# Altium integrated library TI Interface LVDS M-LVDS ECL CML.IntLib: 251 symbols (part 10 of 10)
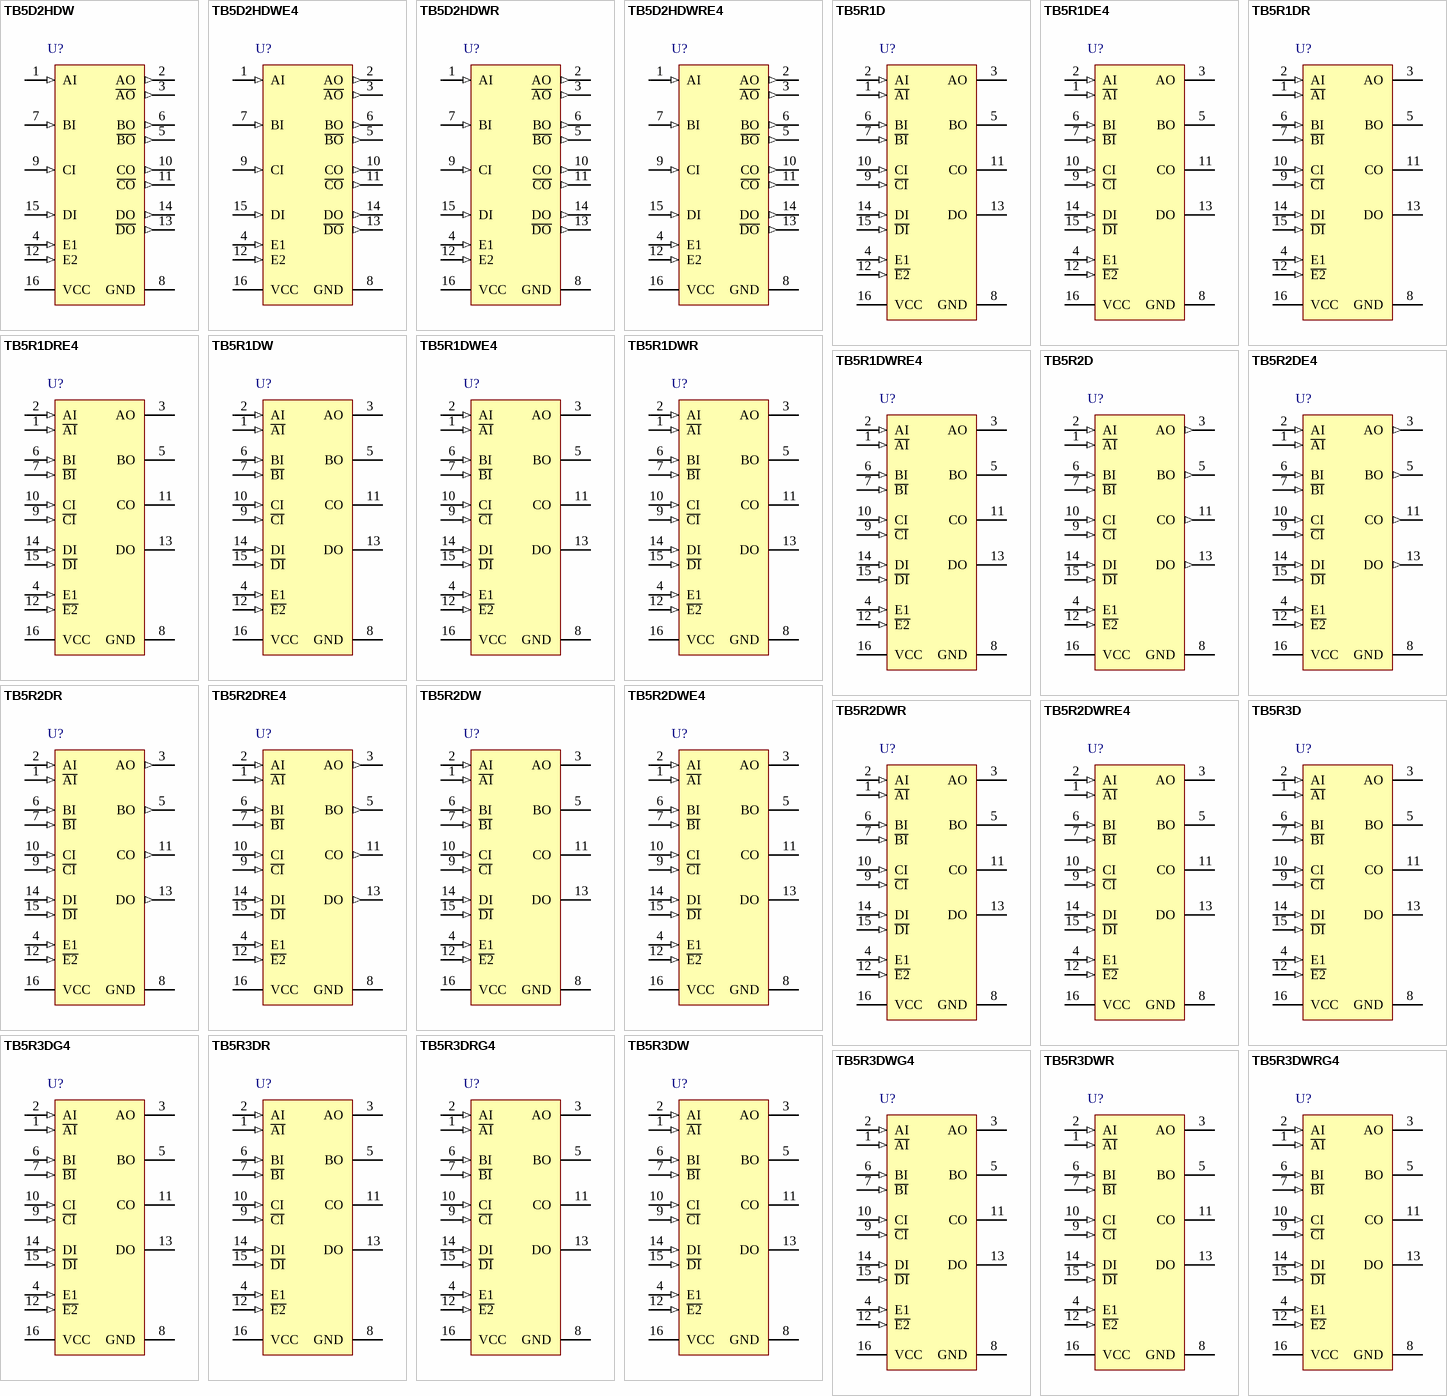
[diagram p18: symbols TB5D2HDW to TB5R3DWRG4]

## TB5R2DWE4
designator U?
Quad PECL Line Receiver with TTL Output, 4 Tx and 4 Rx, -40 to +85 degC, 16-pin SOIC (DW), Pb-Free (RoHS); Part-to-Part Skew(Max)(ps): 1500; Manufacturer: Texas Instruments; PartNumber: TB5R2DWE4; ICC(Max)(mA): 40; No. of Rx: 4; SubFamily: PECL PHY; xECL: TRUE; DatasheetVersion: SLLS588C; PackageVersion: revG, Jan-2011; PackageReference: DW16; PackageDescription: 16-Pin Small Outline Integrated Circuit, 10.3 x 7.5 mm, Pitch 1.27 mm Pitch; Eco-Plan: Pb-Free (RoHS); Input Signal: PECL; No. of Tx: 4; Output Signal: TTL; Mounting Technology: Surface Mount; Code_JEDEC: MS-013-AA; ComponentLink1Description: Datasheet; ComponentLink1URL: http://www.ti.com/general/docs/lit/getliterature.tsp?genericPartNumber=TB5R2&fileType=pdf; ComponentLink2Description: URL Link1; ComponentLink2URL: SamplesURL:http://www.ti.com/product/tb5r2#samples
footprint DW16_N (SOIC, 16-Leads, Body 10.3x7.5mm, Pitch 1.27mm, IPC Medium Density)
footprint DW16_L (SOIC, 16-Leads, Body 10.3x7.5mm, Pitch 1.27mm, IPC High Density)
footprint DW16_M (SOIC, 16-Leads, Body 10.3x7.5mm, Pitch 1.27mm, IPC Low Density)
pins: 1 ~{AI} (in), 2 AI (in), 3 AO (hiz), 4 E1 (in), 5 BO (hiz), 6 BI (in), 7 ~{BI} (in), 8 GND (power), 9 ~{CI} (in), 10 CI (in), 11 CO (hiz), 12 ~{E2} (in), 13 DO (hiz), 14 DI (in), 15 ~{DI} (in), 16 VCC (power)

## TB5R2DWR
designator U?
Quad PECL Line Receiver with PECL Input and TTL Output, 4 Tx and 4 Rx, 5.0 V, -40 to +85 degC, 16-pib SOIC (DW), Pb-Free (RoHS); Part-to-Part Skew(Max)(ps): 1500; Manufacturer: Texas Instruments; PartNumber: TB5R2DWR; ICC(Max)(mA): 40; No. of Rx: 4; SubFamily: PECL PHY; xECL: TRUE; DatasheetVersion: SLLS588C; PackageVersion: revG, Jan-2011; PackageReference: DW16; PackageDescription: 16-Pin Small Outline Integrated Circuit, 10.3 x 7.5 mm, Pitch 1.27 mm Pitch; Eco-Plan: Pb-Free (RoHS); Input Signal: PECL; No. of Tx: 4; Output Signal: TTL; Mounting Technology: Surface Mount; Code_JEDEC: MS-013-AA; ComponentLink1Description: Datasheet; ComponentLink1URL: http://www.ti.com/general/docs/lit/getliterature.tsp?genericPartNumber=TB5R2&fileType=pdf; ComponentLink2Description: URL Link1; ComponentLink2URL: SamplesURL:http://www.ti.com/product/tb5r2#samples
footprint DW16_N (SOIC, 16-Leads, Body 10.3x7.5mm, Pitch 1.27mm, IPC Medium Density)
footprint DW16_L (SOIC, 16-Leads, Body 10.3x7.5mm, Pitch 1.27mm, IPC High Density)
footprint DW16_M (SOIC, 16-Leads, Body 10.3x7.5mm, Pitch 1.27mm, IPC Low Density)
pins: 1 ~{AI} (in), 2 AI (in), 3 AO (hiz), 4 E1 (in), 5 BO (hiz), 6 BI (in), 7 ~{BI} (in), 8 GND (power), 9 ~{CI} (in), 10 CI (in), 11 CO (hiz), 12 ~{E2} (in), 13 DO (hiz), 14 DI (in), 15 ~{DI} (in), 16 VCC (power)

## TB5R2DWRE4
designator U?
Quad PECL Line Receiver with TTL Output, 4 Tx and 4 Rx, -40 to +85 degC, 16-pin SOIC (DW), Pb-Free (RoHS); Part-to-Part Skew(Max)(ps): 1500; Manufacturer: Texas Instruments; PartNumber: TB5R2DWRE4; ICC(Max)(mA): 40; No. of Rx: 4; SubFamily: PECL PHY; xECL: TRUE; DatasheetVersion: SLLS588C; PackageVersion: revG, Jan-2011; PackageReference: DW16; PackageDescription: 16-Pin Small Outline Integrated Circuit, 10.3 x 7.5 mm, Pitch 1.27 mm Pitch; Eco-Plan: Pb-Free (RoHS); Input Signal: PECL; No. of Tx: 4; Output Signal: TTL; Mounting Technology: Surface Mount; Code_JEDEC: MS-013-AA; ComponentLink1Description: Datasheet; ComponentLink1URL: http://www.ti.com/general/docs/lit/getliterature.tsp?genericPartNumber=TB5R2&fileType=pdf; ComponentLink2Description: URL Link1; ComponentLink2URL: SamplesURL:http://www.ti.com/product/tb5r2#samples
footprint DW16_N (SOIC, 16-Leads, Body 10.3x7.5mm, Pitch 1.27mm, IPC Medium Density)
footprint DW16_L (SOIC, 16-Leads, Body 10.3x7.5mm, Pitch 1.27mm, IPC High Density)
footprint DW16_M (SOIC, 16-Leads, Body 10.3x7.5mm, Pitch 1.27mm, IPC Low Density)
pins: 1 ~{AI} (in), 2 AI (in), 3 AO (hiz), 4 E1 (in), 5 BO (hiz), 6 BI (in), 7 ~{BI} (in), 8 GND (power), 9 ~{CI} (in), 10 CI (in), 11 CO (hiz), 12 ~{E2} (in), 13 DO (hiz), 14 DI (in), 15 ~{DI} (in), 16 VCC (power)

## TB5R3D
designator U?
Quad PECL Receiver with PECL Input and TTL Output, 4 Rx, -40 to +85 degC, 16-pin SOIC (D), Green (RoHS & no Sb/Br); Part-to-Part Skew(Max)(ps): 1500; Manufacturer: Texas Instruments; PartNumber: TB5R3D; ICC(Max)(mA): 50; No. of Rx: 4; SubFamily: PECL PHY; xECL: TRUE; DatasheetVersion: SLLS643A; PackageVersion: revM, Jun-2011; PackageReference: D16; PackageDescription: 16-Pin Plastic Small Outline Integrated Circuit, 9.9 x 3.9 mm, Pitch 1.27 mm Pitch; Supplier 1: Digi-Key; Supplier Part Number 1: 296-19322-5-ND; Supplier 2: Newark; Supplier Part Number 2: 58K6676; Supplier 3: Mouser; Supplier Part Number 3: 595-TB5R3D; Eco-Plan: Green (RoHS & no Sb/Br); Input Signal: PECL; Output Signal: TTL; Mounting Technology: Surface Mount; Code_JEDEC: MS-012AC; ComponentLink1Description: Datasheet; ComponentLink1URL: http://www.ti.com/general/docs/lit/getliterature.tsp?genericPartNumber=TB5R3&fileType=pdf; ComponentLink2Description: URL Link1; ComponentLink2URL: SamplesURL:http://www.ti.com/product/tb5r3#samples
footprint D16_N (SOIC, 16-Leads, Body 9.9x3.9mm, Pitch 1.27mm, IPC Medium Density)
footprint D16_L (SOIC, 16-Leads, Body 9.9x3.9mm, Pitch 1.27mm, IPC High Density)
footprint D16_M (SOIC, 16-Leads, Body 9.9x3.9mm, Pitch 1.27mm, IPC Low Density)
pins: 1 ~{AI} (in), 2 AI (in), 3 AO (hiz), 4 E1 (in), 5 BO (hiz), 6 BI (in), 7 ~{BI} (in), 8 GND (power), 9 ~{CI} (in), 10 CI (in), 11 CO (hiz), 12 ~{E2} (in), 13 DO (hiz), 14 DI (in), 15 ~{DI} (in), 16 VCC (power)

## TB5R3DG4
designator U?
Quad PECL Receiver with PECL Input and TTL Output, 4 Rx, -40 to +85 degC, 16-pin SOIC (D), Green (RoHS & no Sb/Br); Part-to-Part Skew(Max)(ps): 1500; Manufacturer: Texas Instruments; PartNumber: TB5R3DG4; ICC(Max)(mA): 50; No. of Rx: 4; SubFamily: PECL PHY; xECL: TRUE; DatasheetVersion: SLLS643A; PackageVersion: revM, Jun-2011; PackageReference: D16; PackageDescription: 16-Pin Plastic Small Outline Integrated Circuit, 9.9 x 3.9 mm, Pitch 1.27 mm Pitch; Supplier 1: Digi-Key; Supplier Part Number 1: TB5R3DG4-ND; Supplier 2: Newark; Supplier Part Number 2: 65M5831; Supplier 3: Mouser; Supplier Part Number 3: 595-TB5R3DG4; Eco-Plan: Green (RoHS & no Sb/Br); Input Signal: PECL; Output Signal: TTL; Mounting Technology: Surface Mount; Code_JEDEC: MS-012AC; ComponentLink1Description: Datasheet; ComponentLink1URL: http://www.ti.com/general/docs/lit/getliterature.tsp?genericPartNumber=TB5R3&fileType=pdf; ComponentLink2Description: URL Link1; ComponentLink2URL: SamplesURL:http://www.ti.com/product/tb5r3#samples
footprint D16_N (SOIC, 16-Leads, Body 9.9x3.9mm, Pitch 1.27mm, IPC Medium Density)
footprint D16_L (SOIC, 16-Leads, Body 9.9x3.9mm, Pitch 1.27mm, IPC High Density)
footprint D16_M (SOIC, 16-Leads, Body 9.9x3.9mm, Pitch 1.27mm, IPC Low Density)
pins: 1 ~{AI} (in), 2 AI (in), 3 AO (hiz), 4 E1 (in), 5 BO (hiz), 6 BI (in), 7 ~{BI} (in), 8 GND (power), 9 ~{CI} (in), 10 CI (in), 11 CO (hiz), 12 ~{E2} (in), 13 DO (hiz), 14 DI (in), 15 ~{DI} (in), 16 VCC (power)

## TB5R3DR
designator U?
Quad PECL Receiver with PECL Input and TTL Output, 4 Rx, -40 to +85 degC, 16-pin SOIC (D), Green (RoHS & no Sb/Br); Part-to-Part Skew(Max)(ps): 1500; Manufacturer: Texas Instruments; PartNumber: TB5R3DR; ICC(Max)(mA): 50; No. of Rx: 4; SubFamily: PECL PHY; xECL: TRUE; DatasheetVersion: SLLS643A; PackageVersion: revM, Jun-2011; PackageReference: D16; PackageDescription: 16-Pin Plastic Small Outline Integrated Circuit, 9.9 x 3.9 mm, Pitch 1.27 mm Pitch; Supplier 1: Digi-Key; Supplier Part Number 1: TB5R3DR-ND; Supplier 2: Mouser; Supplier Part Number 2: 595-TB5R3DR; Eco-Plan: Green (RoHS & no Sb/Br); Input Signal: PECL; Output Signal: TTL; Mounting Technology: Surface Mount; Code_JEDEC: MS-012AC; ComponentLink1Description: Datasheet; ComponentLink1URL: http://www.ti.com/general/docs/lit/getliterature.tsp?genericPartNumber=TB5R3&fileType=pdf; ComponentLink2Description: URL Link1; ComponentLink2URL: SamplesURL:http://www.ti.com/product/tb5r3#samples
footprint D16_N (SOIC, 16-Leads, Body 9.9x3.9mm, Pitch 1.27mm, IPC Medium Density)
footprint D16_L (SOIC, 16-Leads, Body 9.9x3.9mm, Pitch 1.27mm, IPC High Density)
footprint D16_M (SOIC, 16-Leads, Body 9.9x3.9mm, Pitch 1.27mm, IPC Low Density)
pins: 1 ~{AI} (in), 2 AI (in), 3 AO (hiz), 4 E1 (in), 5 BO (hiz), 6 BI (in), 7 ~{BI} (in), 8 GND (power), 9 ~{CI} (in), 10 CI (in), 11 CO (hiz), 12 ~{E2} (in), 13 DO (hiz), 14 DI (in), 15 ~{DI} (in), 16 VCC (power)

## TB5R3DRG4
designator U?
Quad PECL Receiver with PECL Input and TTL Output, 4 Rx, -40 to +85 degC, 16-pin SOIC (D), Green (RoHS & no Sb/Br); Part-to-Part Skew(Max)(ps): 1500; Manufacturer: Texas Instruments; PartNumber: TB5R3DRG4; ICC(Max)(mA): 50; No. of Rx: 4; SubFamily: PECL PHY; xECL: TRUE; DatasheetVersion: SLLS643A; PackageVersion: revM, Jun-2011; PackageReference: D16; PackageDescription: 16-Pin Plastic Small Outline Integrated Circuit, 9.9 x 3.9 mm, Pitch 1.27 mm Pitch; Supplier 1: Digi-Key; Supplier Part Number 1: TB5R3DRG4-ND; Supplier 2: Mouser; Supplier Part Number 2: 595-TB5R3DRG4; Eco-Plan: Green (RoHS & no Sb/Br); Input Signal: PECL; Output Signal: TTL; Mounting Technology: Surface Mount; Code_JEDEC: MS-012AC; ComponentLink1Description: Datasheet; ComponentLink1URL: http://www.ti.com/general/docs/lit/getliterature.tsp?genericPartNumber=TB5R3&fileType=pdf; ComponentLink2Description: URL Link1; ComponentLink2URL: SamplesURL:http://www.ti.com/product/tb5r3#samples
footprint D16_N (SOIC, 16-Leads, Body 9.9x3.9mm, Pitch 1.27mm, IPC Medium Density)
footprint D16_L (SOIC, 16-Leads, Body 9.9x3.9mm, Pitch 1.27mm, IPC High Density)
footprint D16_M (SOIC, 16-Leads, Body 9.9x3.9mm, Pitch 1.27mm, IPC Low Density)
pins: 1 ~{AI} (in), 2 AI (in), 3 AO (hiz), 4 E1 (in), 5 BO (hiz), 6 BI (in), 7 ~{BI} (in), 8 GND (power), 9 ~{CI} (in), 10 CI (in), 11 CO (hiz), 12 ~{E2} (in), 13 DO (hiz), 14 DI (in), 15 ~{DI} (in), 16 VCC (power)

## TB5R3DW
designator U?
Quad PECL Receiver with PECL Input and TTL Output, 4 Rx, -40 to +85 degC, 16-pin SOIC (DW), Green (RoHS & no Sb/Br); Part-to-Part Skew(Max)(ps): 1500; Manufacturer: Texas Instruments; PartNumber: TB5R3DW; ICC(Max)(mA): 50; No. of Rx: 4; SubFamily: PECL PHY; xECL: TRUE; DatasheetVersion: SLLS643A; PackageVersion: revG, Jan-2011; PackageReference: DW16; PackageDescription: 16-Pin Small Outline Integrated Circuit, 10.3 x 7.5 mm, Pitch 1.27 mm Pitch; Supplier 1: Digi-Key; Supplier Part Number 1: 296-19323-5-ND; Supplier 2: Newark; Supplier Part Number 2: 58K6678; Supplier 3: Mouser; Supplier Part Number 3: 595-TB5R3DW; Eco-Plan: Green (RoHS & no Sb/Br); Input Signal: PECL; Output Signal: TTL; Mounting Technology: Surface Mount; Code_JEDEC: MS-013-AA; ComponentLink1Description: Datasheet; ComponentLink1URL: http://www.ti.com/general/docs/lit/getliterature.tsp?genericPartNumber=TB5R3&fileType=pdf; ComponentLink2Description: URL Link1; ComponentLink2URL: SamplesURL:http://www.ti.com/product/tb5r3#samples
footprint DW16_N (SOIC, 16-Leads, Body 10.3x7.5mm, Pitch 1.27mm, IPC Medium Density)
footprint DW16_L (SOIC, 16-Leads, Body 10.3x7.5mm, Pitch 1.27mm, IPC High Density)
footprint DW16_M (SOIC, 16-Leads, Body 10.3x7.5mm, Pitch 1.27mm, IPC Low Density)
pins: 1 ~{AI} (in), 2 AI (in), 3 AO (hiz), 4 E1 (in), 5 BO (hiz), 6 BI (in), 7 ~{BI} (in), 8 GND (power), 9 ~{CI} (in), 10 CI (in), 11 CO (hiz), 12 ~{E2} (in), 13 DO (hiz), 14 DI (in), 15 ~{DI} (in), 16 VCC (power)

## TB5R3DWG4
designator U?
Quad PECL Receiver with PECL Input and TTL Output, 4 Rx, -40 to +85 degC, 16-pin SOIC (DW), Green (RoHS & no Sb/Br); Part-to-Part Skew(Max)(ps): 1500; Manufacturer: Texas Instruments; PartNumber: TB5R3DWG4; ICC(Max)(mA): 50; No. of Rx: 4; SubFamily: PECL PHY; xECL: TRUE; DatasheetVersion: SLLS643A; PackageVersion: revG, Jan-2011; PackageReference: DW16; PackageDescription: 16-Pin Small Outline Integrated Circuit, 10.3 x 7.5 mm, Pitch 1.27 mm Pitch; Supplier 1: Digi-Key; Supplier Part Number 1: TB5R3DWG4-ND; Supplier 2: Mouser; Supplier Part Number 2: 595-TB5R3DWG4; Eco-Plan: Green (RoHS & no Sb/Br); Input Signal: PECL; Output Signal: TTL; Mounting Technology: Surface Mount; Code_JEDEC: MS-013-AA; ComponentLink1Description: Datasheet; ComponentLink1URL: http://www.ti.com/general/docs/lit/getliterature.tsp?genericPartNumber=TB5R3&fileType=pdf; ComponentLink2Description: URL Link1; ComponentLink2URL: SamplesURL:http://www.ti.com/product/tb5r3#samples
footprint DW16_N (SOIC, 16-Leads, Body 10.3x7.5mm, Pitch 1.27mm, IPC Medium Density)
footprint DW16_L (SOIC, 16-Leads, Body 10.3x7.5mm, Pitch 1.27mm, IPC High Density)
footprint DW16_M (SOIC, 16-Leads, Body 10.3x7.5mm, Pitch 1.27mm, IPC Low Density)
pins: 1 ~{AI} (in), 2 AI (in), 3 AO (hiz), 4 E1 (in), 5 BO (hiz), 6 BI (in), 7 ~{BI} (in), 8 GND (power), 9 ~{CI} (in), 10 CI (in), 11 CO (hiz), 12 ~{E2} (in), 13 DO (hiz), 14 DI (in), 15 ~{DI} (in), 16 VCC (power)

## TB5R3DWR
designator U?
Quad PECL Receiver with PECL Input and TTL Output, 4 Rx, -40 to +85 degC, 16-pin SOIC (DW), Green (RoHS & no Sb/Br); Part-to-Part Skew(Max)(ps): 1500; Manufacturer: Texas Instruments; PartNumber: TB5R3DWR; ICC(Max)(mA): 50; No. of Rx: 4; SubFamily: PECL PHY; xECL: TRUE; DatasheetVersion: SLLS643A; PackageVersion: revG, Jan-2011; PackageReference: DW16; PackageDescription: 16-Pin Small Outline Integrated Circuit, 10.3 x 7.5 mm, Pitch 1.27 mm Pitch; Supplier 1: Digi-Key; Supplier Part Number 1: TB5R3DWR-ND; Supplier 2: Newark; Supplier Part Number 2: 58K6679; Supplier 3: Mouser; Supplier Part Number 3: 595-TB5R3DWR; Eco-Plan: Green (RoHS & no Sb/Br); Input Signal: PECL; Output Signal: TTL; Mounting Technology: Surface Mount; Code_JEDEC: MS-013-AA; ComponentLink1Description: Datasheet; ComponentLink1URL: http://www.ti.com/general/docs/lit/getliterature.tsp?genericPartNumber=TB5R3&fileType=pdf; ComponentLink2Description: URL Link1; ComponentLink2URL: SamplesURL:http://www.ti.com/product/tb5r3#samples
footprint DW16_N (SOIC, 16-Leads, Body 10.3x7.5mm, Pitch 1.27mm, IPC Medium Density)
footprint DW16_L (SOIC, 16-Leads, Body 10.3x7.5mm, Pitch 1.27mm, IPC High Density)
footprint DW16_M (SOIC, 16-Leads, Body 10.3x7.5mm, Pitch 1.27mm, IPC Low Density)
pins: 1 ~{AI} (in), 2 AI (in), 3 AO (hiz), 4 E1 (in), 5 BO (hiz), 6 BI (in), 7 ~{BI} (in), 8 GND (power), 9 ~{CI} (in), 10 CI (in), 11 CO (hiz), 12 ~{E2} (in), 13 DO (hiz), 14 DI (in), 15 ~{DI} (in), 16 VCC (power)

## TB5R3DWRG4
designator U?
Quad PECL Receiver with PECL Input and TTL Output, 4 Rx, -40 to +85 degC, 16-pin SOIC (DW), Green (RoHS & no Sb/Br); Part-to-Part Skew(Max)(ps): 1500; Manufacturer: Texas Instruments; PartNumber: TB5R3DWRG4; ICC(Max)(mA): 50; No. of Rx: 4; SubFamily: PECL PHY; xECL: TRUE; DatasheetVersion: SLLS643A; PackageVersion: revG, Jan-2011; PackageReference: DW16; PackageDescription: 16-Pin Small Outline Integrated Circuit, 10.3 x 7.5 mm, Pitch 1.27 mm Pitch; Supplier 1: Digi-Key; Supplier Part Number 1: TB5R3DWRG4-ND; Supplier 2: Newark; Supplier Part Number 2: 67K8434; Supplier 3: Mouser; Supplier Part Number 3: 595-TB5R3DWRG4; Eco-Plan: Green (RoHS & no Sb/Br); Input Signal: PECL; Output Signal: TTL; Mounting Technology: Surface Mount; Code_JEDEC: MS-013-AA; ComponentLink1Description: Datasheet; ComponentLink1URL: http://www.ti.com/general/docs/lit/getliterature.tsp?genericPartNumber=TB5R3&fileType=pdf; ComponentLink2Description: URL Link1; ComponentLink2URL: SamplesURL:http://www.ti.com/product/tb5r3#samples
footprint DW16_N (SOIC, 16-Leads, Body 10.3x7.5mm, Pitch 1.27mm, IPC Medium Density)
footprint DW16_L (SOIC, 16-Leads, Body 10.3x7.5mm, Pitch 1.27mm, IPC High Density)
footprint DW16_M (SOIC, 16-Leads, Body 10.3x7.5mm, Pitch 1.27mm, IPC Low Density)
pins: 1 ~{AI} (in), 2 AI (in), 3 AO (hiz), 4 E1 (in), 5 BO (hiz), 6 BI (in), 7 ~{BI} (in), 8 GND (power), 9 ~{CI} (in), 10 CI (in), 11 CO (hiz), 12 ~{E2} (in), 13 DO (hiz), 14 DI (in), 15 ~{DI} (in), 16 VCC (power)

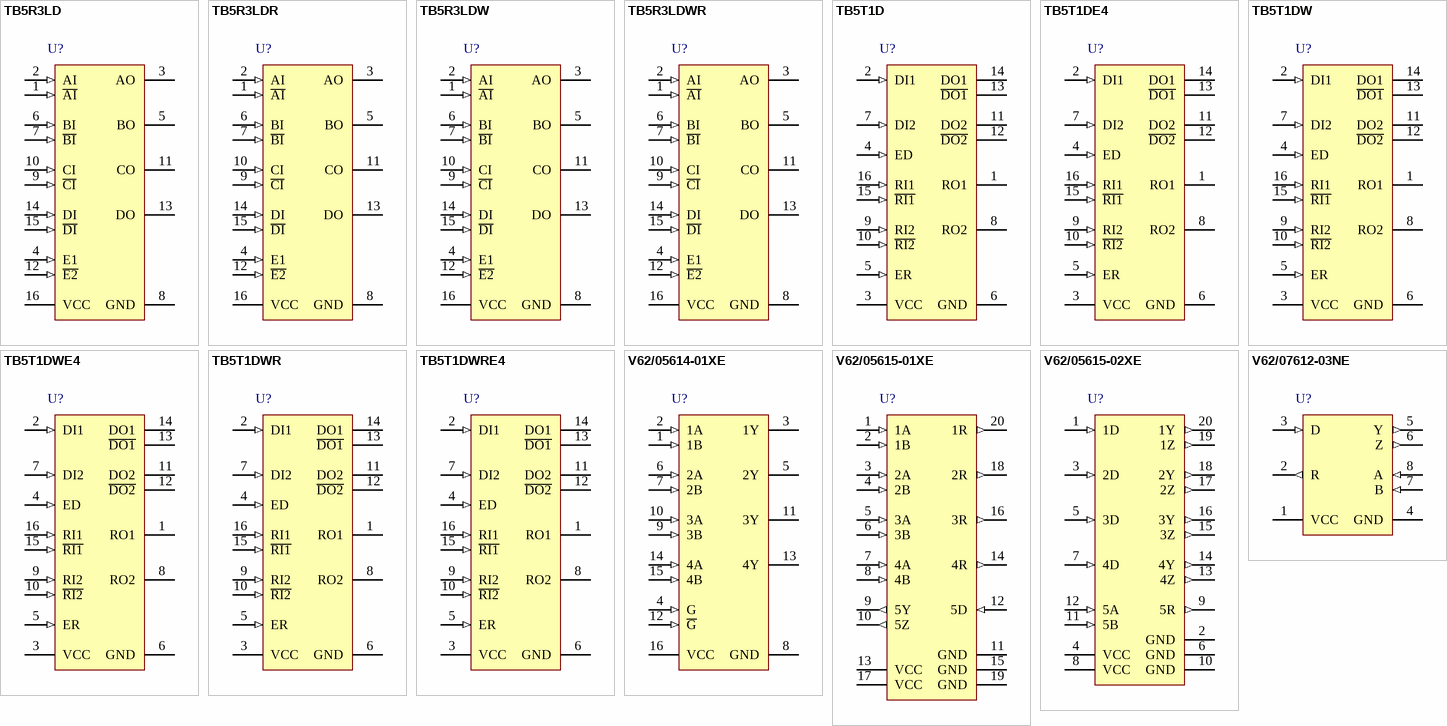
[diagram p9: symbols TB5R3LD to V62/07612-03NE]

## TB5R3LD
designator U?
Quad PECL Receiver with TTL Output, 4 Rx, -40 to +85 degC, 16-pin SOIC (D), Green (RoHS & no Sb/Br); Part-to-Part Skew(Max)(ps): 1500; Manufacturer: Texas Instruments; PartNumber: TB5R3LD; ICC(Max)(mA): 50; No. of Rx: 4; SubFamily: PECL PHY; xECL: TRUE; DatasheetVersion: SLLS643A; PackageVersion: revM, Jun-2011; PackageReference: D16; PackageDescription: 16-Pin Plastic Small Outline Integrated Circuit, 9.9 x 3.9 mm, Pitch 1.27 mm Pitch; Supplier 1: Digi-Key; Supplier Part Number 1: TB5R3LD-ND; Supplier 2: Farnell; Supplier Part Number 2: 1755440; Supplier 3: Newark; Supplier Part Number 3: 34R9078; Supplier 4: Newark; Supplier Part Number 4: 58K6680; Supplier 5: Mouser; Supplier Part Number 5: 595-TB5R3LD; Eco-Plan: Green (RoHS & no Sb/Br); Input Signal: PECL; Output Signal: TTL; Mounting Technology: Surface Mount; Code_JEDEC: MS-012AC; ComponentLink1Description: Datasheet; ComponentLink1URL: http://www.ti.com/general/docs/lit/getliterature.tsp?genericPartNumber=TB5R3&fileType=pdf; ComponentLink2Description: URL Link1; ComponentLink2URL: SamplesURL:http://www.ti.com/product/tb5r3#samples
footprint D16_N (SOIC, 16-Leads, Body 9.9x3.9mm, Pitch 1.27mm, IPC Medium Density)
footprint D16_L (SOIC, 16-Leads, Body 9.9x3.9mm, Pitch 1.27mm, IPC High Density)
footprint D16_M (SOIC, 16-Leads, Body 9.9x3.9mm, Pitch 1.27mm, IPC Low Density)
pins: 1 ~{AI} (in), 2 AI (in), 3 AO (hiz), 4 E1 (in), 5 BO (hiz), 6 BI (in), 7 ~{BI} (in), 8 GND (power), 9 ~{CI} (in), 10 CI (in), 11 CO (hiz), 12 ~{E2} (in), 13 DO (hiz), 14 DI (in), 15 ~{DI} (in), 16 VCC (power)

## TB5R3LDR
designator U?
Quad PECL Receiver with TTL Output, 4 Rx, -40 to +85 degC, 16-pin SOIC (D); Part-to-Part Skew(Max)(ps): 1500; Manufacturer: Texas Instruments; PartNumber: TB5R3LDR; Eco-Plan: Green (RoHS & no Sb/Br); ICC(Max)(mA): 50; No. of Rx: 4; SubFamily: PECL PHY; xECL: TRUE; DatasheetVersion: SLLS643A; PackageVersion: revM, Jun-2011; PackageReference: D16; PackageDescription: 16-Pin Plastic Small Outline Integrated Circuit, 9.9 x 3.9 mm, Pitch 1.27 mm Pitch; Supplier 1: Digi-Key; Supplier Part Number 1: TB5R3LDR-ND; Supplier 2: Mouser; Supplier Part Number 2: 595-TB5R3LDR; Input Signal: PECL; Output Signal: TTL; Mounting Technology: Surface Mount; Code_JEDEC: MS-012AC; ComponentLink1Description: Datasheet; ComponentLink1URL: http://www.ti.com/general/docs/lit/getliterature.tsp?genericPartNumber=TB5R3&fileType=pdf; ComponentLink2Description: URL Link1; ComponentLink2URL: SamplesURL:http://www.ti.com/product/tb5r3#samples
footprint D16_N (SOIC, 16-Leads, Body 9.9x3.9mm, Pitch 1.27mm, IPC Medium Density)
footprint D16_L (SOIC, 16-Leads, Body 9.9x3.9mm, Pitch 1.27mm, IPC High Density)
footprint D16_M (SOIC, 16-Leads, Body 9.9x3.9mm, Pitch 1.27mm, IPC Low Density)
pins: 1 ~{AI} (in), 2 AI (in), 3 AO (hiz), 4 E1 (in), 5 BO (hiz), 6 BI (in), 7 ~{BI} (in), 8 GND (power), 9 ~{CI} (in), 10 CI (in), 11 CO (hiz), 12 ~{E2} (in), 13 DO (hiz), 14 DI (in), 15 ~{DI} (in), 16 VCC (power)

## TB5R3LDW
designator U?
Quad PECL Receiver with TTL Output, 4 Rx, -40 to +85 degC, 16-pin SOIC (DW); Part-to-Part Skew(Max)(ps): 1500; Manufacturer: Texas Instruments; PartNumber: TB5R3LDW; Eco-Plan: Green (RoHS & no Sb/Br); ICC(Max)(mA): 50; No. of Rx: 4; SubFamily: PECL PHY; xECL: TRUE; DatasheetVersion: SLLS643A; PackageVersion: revG, Jan-2011; PackageReference: DW16; PackageDescription: 16-Pin Small Outline Integrated Circuit, 10.3 x 7.5 mm, Pitch 1.27 mm Pitch; Supplier 1: Digi-Key; Supplier Part Number 1: TB5R3LDW-ND; Supplier 2: Newark; Supplier Part Number 2: 58K6682; Supplier 3: Mouser; Supplier Part Number 3: 595-TB5R3LDW; Input Signal: PECL; Output Signal: TTL; Mounting Technology: Surface Mount; Code_JEDEC: MS-013-AA; ComponentLink1Description: Datasheet; ComponentLink1URL: http://www.ti.com/general/docs/lit/getliterature.tsp?genericPartNumber=TB5R3&fileType=pdf; ComponentLink2Description: URL Link1; ComponentLink2URL: SamplesURL:http://www.ti.com/product/tb5r3#samples
footprint DW16_N (SOIC, 16-Leads, Body 10.3x7.5mm, Pitch 1.27mm, IPC Medium Density)
footprint DW16_L (SOIC, 16-Leads, Body 10.3x7.5mm, Pitch 1.27mm, IPC High Density)
footprint DW16_M (SOIC, 16-Leads, Body 10.3x7.5mm, Pitch 1.27mm, IPC Low Density)
pins: 1 ~{AI} (in), 2 AI (in), 3 AO (hiz), 4 E1 (in), 5 BO (hiz), 6 BI (in), 7 ~{BI} (in), 8 GND (power), 9 ~{CI} (in), 10 CI (in), 11 CO (hiz), 12 ~{E2} (in), 13 DO (hiz), 14 DI (in), 15 ~{DI} (in), 16 VCC (power)

## TB5R3LDWR
designator U?
Quad PECL Receiver with TTL Output, 4 Rx, -40 to +85 degC, 16-pin SOIC (DW); Part-to-Part Skew(Max)(ps): 1500; Manufacturer: Texas Instruments; PartNumber: TB5R3LDWR; Eco-Plan: Green (RoHS & no Sb/Br); ICC(Max)(mA): 50; No. of Rx: 4; SubFamily: PECL PHY; xECL: TRUE; DatasheetVersion: SLLS643A; PackageVersion: revG, Jan-2011; PackageReference: DW16; PackageDescription: 16-Pin Small Outline Integrated Circuit, 10.3 x 7.5 mm, Pitch 1.27 mm Pitch; Supplier 1: Digi-Key; Supplier Part Number 1: TB5R3LDWR-ND; Supplier 2: Newark; Supplier Part Number 2: 58K6683; Supplier 3: Mouser; Supplier Part Number 3: 595-TB5R3LDWR; Input Signal: PECL; Output Signal: TTL; Mounting Technology: Surface Mount; Code_JEDEC: MS-013-AA; ComponentLink1Description: Datasheet; ComponentLink1URL: http://www.ti.com/general/docs/lit/getliterature.tsp?genericPartNumber=TB5R3&fileType=pdf; ComponentLink2Description: URL Link1; ComponentLink2URL: SamplesURL:http://www.ti.com/product/tb5r3#samples
footprint DW16_N (SOIC, 16-Leads, Body 10.3x7.5mm, Pitch 1.27mm, IPC Medium Density)
footprint DW16_L (SOIC, 16-Leads, Body 10.3x7.5mm, Pitch 1.27mm, IPC High Density)
footprint DW16_M (SOIC, 16-Leads, Body 10.3x7.5mm, Pitch 1.27mm, IPC Low Density)
pins: 1 ~{AI} (in), 2 AI (in), 3 AO (hiz), 4 E1 (in), 5 BO (hiz), 6 BI (in), 7 ~{BI} (in), 8 GND (power), 9 ~{CI} (in), 10 CI (in), 11 CO (hiz), 12 ~{E2} (in), 13 DO (hiz), 14 DI (in), 15 ~{DI} (in), 16 VCC (power)

## TB5T1D
designator U?
5 V Dual Full Duplex PECL Transceiver with TTL Input and TTL Output, 2 Tx and 2 Rx, -40 to +85 degC, 16-pin SOIC (D), Pb-Free (RoHS); Manufacturer: Texas Instruments; PartNumber: TB5T1D; ICC(Max)(mA): 40; Input Signal: PECL, TTL; No. of Rx: 2; SubFamily: PECL PHY; xECL: TRUE; DatasheetVersion: SLLS589C; PackageVersion: revM, Jun-2011; PackageReference: D16; PackageDescription: 16-Pin Plastic Small Outline Integrated Circuit, 9.9 x 3.9 mm, Pitch 1.27 mm Pitch; Eco-Plan: Pb-Free (RoHS); No. of Tx: 2; Output Signal: PECL, TTL; Part-to-Part Skew(Max)(ps): Rx; Mounting Technology: Surface Mount; Code_JEDEC: MS-012AC; ComponentLink1Description: Datasheet; ComponentLink1URL: http://www.ti.com/general/docs/lit/getliterature.tsp?genericPartNumber=TB5T1&fileType=pdf; ComponentLink2Description: URL Link1; ComponentLink2URL: SamplesURL:http://www.ti.com/product/tb5t1#samples
footprint D16_N (SOIC, 16-Leads, Body 9.9x3.9mm, Pitch 1.27mm, IPC Medium Density)
footprint D16_L (SOIC, 16-Leads, Body 9.9x3.9mm, Pitch 1.27mm, IPC High Density)
footprint D16_M (SOIC, 16-Leads, Body 9.9x3.9mm, Pitch 1.27mm, IPC Low Density)
pins: 1 RO1 (hiz), 2 DI1 (in), 3 VCC (power), 4 ED (in), 5 ER (in), 6 GND (power), 7 DI2 (in), 8 RO2 (hiz), 9 RI2 (in), 10 ~{RI2} (in), 11 DO2 (hiz), 12 ~{DO2} (hiz), 13 ~{DO1} (hiz), 14 DO1 (hiz), 15 ~{RI1} (in), 16 RI1 (in)

## TB5T1DE4
designator U?
5 V Dual Full Duplex PECL Transceiver with TTL Input and TTL Output, 2 Tx and 2 Rx, -40 to +85 degC, 16-pin SOIC (D), Pb-Free (RoHS); Manufacturer: Texas Instruments; PartNumber: TB5T1DE4; ICC(Max)(mA): 40; Input Signal: PECL, TTL; No. of Rx: 2; SubFamily: PECL PHY; xECL: TRUE; DatasheetVersion: SLLS589C; PackageVersion: revM, Jun-2011; PackageReference: D16; PackageDescription: 16-Pin Plastic Small Outline Integrated Circuit, 9.9 x 3.9 mm, Pitch 1.27 mm Pitch; Eco-Plan: Pb-Free (RoHS); No. of Tx: 2; Output Signal: PECL, TTL; Part-to-Part Skew(Max)(ps): Rx; Mounting Technology: Surface Mount; Code_JEDEC: MS-012AC; ComponentLink1Description: Datasheet; ComponentLink1URL: http://www.ti.com/general/docs/lit/getliterature.tsp?genericPartNumber=TB5T1&fileType=pdf; ComponentLink2Description: URL Link1; ComponentLink2URL: SamplesURL:http://www.ti.com/product/tb5t1#samples
footprint D16_N (SOIC, 16-Leads, Body 9.9x3.9mm, Pitch 1.27mm, IPC Medium Density)
footprint D16_L (SOIC, 16-Leads, Body 9.9x3.9mm, Pitch 1.27mm, IPC High Density)
footprint D16_M (SOIC, 16-Leads, Body 9.9x3.9mm, Pitch 1.27mm, IPC Low Density)
pins: 1 RO1 (hiz), 2 DI1 (in), 3 VCC (power), 4 ED (in), 5 ER (in), 6 GND (power), 7 DI2 (in), 8 RO2 (hiz), 9 RI2 (in), 10 ~{RI2} (in), 11 DO2 (hiz), 12 ~{DO2} (hiz), 13 ~{DO1} (hiz), 14 DO1 (hiz), 15 ~{RI1} (in), 16 RI1 (in)

## TB5T1DW
designator U?
5 V Dual Full Duplex PECL Transceiver with TTL Input and TTL Output, 2 Tx and 2 Rx, -40 to +85 degC, 16-pin SOIC (DW), Green (RoHS & no Sb/Br); Manufacturer: Texas Instruments; PartNumber: TB5T1DW; Eco-Plan: Pb-Free (RoHS); ICC(Max)(mA): 40; Input Signal: PECL, TTL; No. of Rx: 2; SubFamily: PECL PHY; xECL: TRUE; DatasheetVersion: SLLS589C; PackageVersion: revG, Jan-2011; PackageReference: DW16; PackageDescription: 16-Pin Small Outline Integrated Circuit, 10.3 x 7.5 mm, Pitch 1.27 mm Pitch; No. of Tx: 2; Output Signal: PECL, TTL; Part-to-Part Skew(Max)(ps): Rx; Mounting Technology: Surface Mount; Code_JEDEC: MS-013-AA; ComponentLink1Description: Datasheet; ComponentLink1URL: http://www.ti.com/general/docs/lit/getliterature.tsp?genericPartNumber=TB5T1&fileType=pdf; ComponentLink2Description: URL Link1; ComponentLink2URL: SamplesURL:http://www.ti.com/product/tb5t1#samples
footprint DW16_N (SOIC, 16-Leads, Body 10.3x7.5mm, Pitch 1.27mm, IPC Medium Density)
footprint DW16_L (SOIC, 16-Leads, Body 10.3x7.5mm, Pitch 1.27mm, IPC High Density)
footprint DW16_M (SOIC, 16-Leads, Body 10.3x7.5mm, Pitch 1.27mm, IPC Low Density)
pins: 1 RO1 (hiz), 2 DI1 (in), 3 VCC (power), 4 ED (in), 5 ER (in), 6 GND (power), 7 DI2 (in), 8 RO2 (hiz), 9 RI2 (in), 10 ~{RI2} (in), 11 DO2 (hiz), 12 ~{DO2} (hiz), 13 ~{DO1} (hiz), 14 DO1 (hiz), 15 ~{RI1} (in), 16 RI1 (in)

## TB5T1DWE4
designator U?
5 V Dual Full Duplex PECL Transceiver with TTL Input and TTL Output, 2 Tx and 2 Rx, -40 to +85 degC, 16-pin SOIC (DW), Green (RoHS & no Sb/Br); Manufacturer: Texas Instruments; PartNumber: TB5T1DWE4; Eco-Plan: Pb-Free (RoHS); ICC(Max)(mA): 40; Input Signal: PECL, TTL; No. of Rx: 2; SubFamily: PECL PHY; xECL: TRUE; DatasheetVersion: SLLS589C; PackageVersion: revG, Jan-2011; PackageReference: DW16; PackageDescription: 16-Pin Small Outline Integrated Circuit, 10.3 x 7.5 mm, Pitch 1.27 mm Pitch; No. of Tx: 2; Output Signal: PECL, TTL; Part-to-Part Skew(Max)(ps): Rx; Mounting Technology: Surface Mount; Code_JEDEC: MS-013-AA; ComponentLink1Description: Datasheet; ComponentLink1URL: http://www.ti.com/general/docs/lit/getliterature.tsp?genericPartNumber=TB5T1&fileType=pdf; ComponentLink2Description: URL Link1; ComponentLink2URL: SamplesURL:http://www.ti.com/product/tb5t1#samples
footprint DW16_N (SOIC, 16-Leads, Body 10.3x7.5mm, Pitch 1.27mm, IPC Medium Density)
footprint DW16_L (SOIC, 16-Leads, Body 10.3x7.5mm, Pitch 1.27mm, IPC High Density)
footprint DW16_M (SOIC, 16-Leads, Body 10.3x7.5mm, Pitch 1.27mm, IPC Low Density)
pins: 1 RO1 (hiz), 2 DI1 (in), 3 VCC (power), 4 ED (in), 5 ER (in), 6 GND (power), 7 DI2 (in), 8 RO2 (hiz), 9 RI2 (in), 10 ~{RI2} (in), 11 DO2 (hiz), 12 ~{DO2} (hiz), 13 ~{DO1} (hiz), 14 DO1 (hiz), 15 ~{RI1} (in), 16 RI1 (in)

## TB5T1DWR
designator U?
5 V Dual Full Duplex PECL Transceiver with TTL Input and TTL Output, 2 Tx and 2 Rx, -40 to +85 degC, 16-pin SOIC (DW), Pb-Free (RoHS); Manufacturer: Texas Instruments; PartNumber: TB5T1DWR; ICC(Max)(mA): 40; Input Signal: PECL, TTL; No. of Rx: 2; SubFamily: PECL PHY; xECL: TRUE; DatasheetVersion: SLLS589C; PackageVersion: revG, Jan-2011; PackageReference: DW16; PackageDescription: 16-Pin Small Outline Integrated Circuit, 10.3 x 7.5 mm, Pitch 1.27 mm Pitch; Eco-Plan: Pb-Free (RoHS); No. of Tx: 2; Output Signal: PECL, TTL; Part-to-Part Skew(Max)(ps): Rx; Mounting Technology: Surface Mount; Code_JEDEC: MS-013-AA; ComponentLink1Description: Datasheet; ComponentLink1URL: http://www.ti.com/general/docs/lit/getliterature.tsp?genericPartNumber=TB5T1&fileType=pdf; ComponentLink2Description: URL Link1; ComponentLink2URL: SamplesURL:http://www.ti.com/product/tb5t1#samples
footprint DW16_N (SOIC, 16-Leads, Body 10.3x7.5mm, Pitch 1.27mm, IPC Medium Density)
footprint DW16_L (SOIC, 16-Leads, Body 10.3x7.5mm, Pitch 1.27mm, IPC High Density)
footprint DW16_M (SOIC, 16-Leads, Body 10.3x7.5mm, Pitch 1.27mm, IPC Low Density)
pins: 1 RO1 (hiz), 2 DI1 (in), 3 VCC (power), 4 ED (in), 5 ER (in), 6 GND (power), 7 DI2 (in), 8 RO2 (hiz), 9 RI2 (in), 10 ~{RI2} (in), 11 DO2 (hiz), 12 ~{DO2} (hiz), 13 ~{DO1} (hiz), 14 DO1 (hiz), 15 ~{RI1} (in), 16 RI1 (in)

## TB5T1DWRE4
designator U?
5 V Dual Full Duplex PECL Transceiver with TTL Input and TTL Output, 2 Tx and 2 Rx, -40 to +85 degC, 16-pin SOIC (DW), Pb-Free (RoHS); Manufacturer: Texas Instruments; PartNumber: TB5T1DWRE4; ICC(Max)(mA): 40; Input Signal: PECL, TTL; No. of Rx: 2; SubFamily: PECL PHY; xECL: TRUE; DatasheetVersion: SLLS589C; PackageVersion: revG, Jan-2011; PackageReference: DW16; PackageDescription: 16-Pin Small Outline Integrated Circuit, 10.3 x 7.5 mm, Pitch 1.27 mm Pitch; Eco-Plan: Pb-Free (RoHS); No. of Tx: 2; Output Signal: PECL, TTL; Part-to-Part Skew(Max)(ps): Rx; Mounting Technology: Surface Mount; Code_JEDEC: MS-013-AA; ComponentLink1Description: Datasheet; ComponentLink1URL: http://www.ti.com/general/docs/lit/getliterature.tsp?genericPartNumber=TB5T1&fileType=pdf; ComponentLink2Description: URL Link1; ComponentLink2URL: SamplesURL:http://www.ti.com/product/tb5t1#samples
footprint DW16_N (SOIC, 16-Leads, Body 10.3x7.5mm, Pitch 1.27mm, IPC Medium Density)
footprint DW16_L (SOIC, 16-Leads, Body 10.3x7.5mm, Pitch 1.27mm, IPC High Density)
footprint DW16_M (SOIC, 16-Leads, Body 10.3x7.5mm, Pitch 1.27mm, IPC Low Density)
pins: 1 RO1 (hiz), 2 DI1 (in), 3 VCC (power), 4 ED (in), 5 ER (in), 6 GND (power), 7 DI2 (in), 8 RO2 (hiz), 9 RI2 (in), 10 ~{RI2} (in), 11 DO2 (hiz), 12 ~{DO2} (hiz), 13 ~{DO1} (hiz), 14 DO1 (hiz), 15 ~{RI1} (in), 16 RI1 (in)

## V62/05614-01XE
designator U?
400 Mbps Enhanced Product High Speed Differential Receivers with CMOS, ECL, LVCMOS, LVDS, LVECL, LVPECL, PECL Input and LVTTL Output, 4 Rx, -55 to +125 degC, 16-pin SOIC (D), Green (RoHS & no Sb/Br); Part-to-Part Skew(Max)(ps): 1200; Manufacturer: Texas Instruments; PartNumber: V62/05614-01XE; ESD HBM(kV): 15; ICC(Max)(mA): 25; No. of Rx: 4; Signaling Rate(Mbps): 400; SubFamily: LVDS PHY (<800Mbps); DatasheetVersion: SGLS309B; PackageVersion: revM, Jun-2011; PackageReference: D16; PackageDescription: 16-Pin Plastic Small Outline Integrated Circuit, 9.9 x 3.9 mm, Pitch 1.27 mm Pitch; Supplier 1: Newark; Supplier Part Number 1: 46M1780; Supplier 2: Mouser; Supplier Part Number 2: 595-V62/05614-01XE; Eco-Plan: Green (RoHS & no Sb/Br); Function: Receiver; Input Signal: CMOS, ECL, LVCMOS, LVDS, LVECL, LVPECL, PECL; Output Signal: LVTTL; Mounting Technology: Surface Mount; Code_JEDEC: MS-012AC; ComponentLink1Description: Datasheet; ComponentLink1URL: http://www.ti.com/general/docs/lit/getliterature.tsp?genericPartNumber=SN65LVDS33-EP&fileType=pdf; ComponentLink2Description: URL Link1; ComponentLink2URL: SamplesURL:http://www.ti.com/product/sn65lvds33-ep#samples
footprint D16_N (SOIC, 16-Leads, Body 9.9x3.9mm, Pitch 1.27mm, IPC Medium Density)
footprint D16_L (SOIC, 16-Leads, Body 9.9x3.9mm, Pitch 1.27mm, IPC High Density)
footprint D16_M (SOIC, 16-Leads, Body 9.9x3.9mm, Pitch 1.27mm, IPC Low Density)
pins: 1 1B (in), 2 1A (in), 3 1Y (hiz), 4 G (in), 5 2Y (hiz), 6 2A (in), 7 2B (in), 8 GND (power), 9 3B (in), 10 3A (in), 11 3Y (hiz), 12 ~{G} (in), 13 4Y (hiz), 14 4A (in), 15 4B (in), 16 VCC (power)

## V62/05615-01XE
designator U?
125 Mbps Enhanced Product Memorystick™ Interconnect Extender Chipset with LVDS, LVTTL Input and LVDS, LVTTL Output, 1 Tx and 4 Rx, -40 to +125 degC, 20-Pin TSSOP (PW), Green (RoHS & no Sb/Br); Part-to-Part Skew(Max)(ps): 1000; Manufacturer: Texas Instruments; PartNumber: V62/05615-01XE; ESD HBM(kV): 12; ICC(Max)(mA): 25; No. of Rx: 4; No. of Tx: 1; Signaling Rate(Mbps): 125; SubFamily: LVDS PHY (<800Mbps); DatasheetVersion: SCES633; PackageVersion: revG, Feb-2011; PackageReference: PW20; PackageDescription: 20-Pin Plastic Thin Small Outline Package 6.5 x 4.4 mm Body ,0.65 mm Pitch; Supplier 1: Mouser; Supplier Part Number 1: 595-V62/05615-01XE; Eco-Plan: Green (RoHS & no Sb/Br); Input Signal: LVDS, LVTTL; Output Signal: LVDS, LVTTL; Mounting Technology: Surface Mount; Code_JEDEC: MO-153; ComponentLink1Description: Datasheet; ComponentLink1URL: http://www.ti.com/general/docs/lit/getliterature.tsp?genericPartNumber=SN65LVDT14-EP&fileType=pdf; ComponentLink2Description: URL Link1; ComponentLink2URL: SamplesURL:http://www.ti.com/product/sn65lvdt14-ep#samples
footprint PW20_N (TSOP, 20-Leads, Body 6.5x4.4mm, Pitch 0.65mm, IPC Medium Density)
footprint PW20_L (TSOP, 20-Leads, Body 6.5x4.4mm, Pitch 0.65mm, IPC High Density)
footprint PW20_M (TSOP, 20-Leads, Body 6.5x4.4mm, Pitch 0.65mm, IPC Low Density)
pins: 1 1A (in), 2 1B (in), 3 2A (in), 4 2B (in), 5 3A (in), 6 3B (in), 7 4A (in), 8 4B (in), 9 5Y (out), 10 5Z (out), 11 GND (power), 12 5D (in), 13 VCC (power), 14 4R (out), 15 GND (power), 16 3R (out), 17 VCC (power), 18 2R (out), 19 GND (power), 20 1R (out)

## V62/05615-02XE
designator U?
Enhanced Product Memorystick™ Interconnect Extender Chipset, -40 to +125 degC, 20-Pin TSSOP (PW), Green (RoHS & no Sb/Br); Manufacturer: Texas Instruments; PartNumber: V62/05615-02XE; SubFamily: LVDS PHY (<800Mbps); DatasheetVersion: SCES633; PackageVersion: revG, Feb-2011; PackageReference: PW20; PackageDescription: 20-Pin Plastic Thin Small Outline Package 6.5 x 4.4 mm Body ,0.65 mm Pitch; Supplier 1: Mouser; Supplier Part Number 1: 595-V62/05615-02XE; Eco-Plan: Green (RoHS & no Sb/Br); Mounting Technology: Surface Mount; Code_JEDEC: MO-153; ComponentLink1Description: Datasheet; ComponentLink1URL: http://www.ti.com/general/docs/lit/getliterature.tsp?genericPartNumber=SN65LVDT41-EP&fileType=pdf; ComponentLink2Description: URL Link1; ComponentLink2URL: SamplesURL:http://www.ti.com/product/sn65lvdt41-ep#samples
footprint PW20_N (TSOP, 20-Leads, Body 6.5x4.4mm, Pitch 0.65mm, IPC Medium Density)
footprint PW20_L (TSOP, 20-Leads, Body 6.5x4.4mm, Pitch 0.65mm, IPC High Density)
footprint PW20_M (TSOP, 20-Leads, Body 6.5x4.4mm, Pitch 0.65mm, IPC Low Density)
pins: 1 1D (in), 2 GND (power), 3 2D (in), 4 VCC (power), 5 3D (in), 6 GND (power), 7 4D (in), 8 VCC (power), 9 5R (out), 10 GND (power), 11 5B (in), 12 5A (in), 13 4Z (out), 14 4Y (out), 15 3Z (out), 16 3Y (out), 17 2Z (out), 18 2Y (out), 19 1Z (out), 20 1Y (out)

## V62/07612-03NE
designator U?
400 Mbps Enhanced Product High-Speed Differential Line Driver and Receiver with LVDS, LVTTL Input and Output, 1 Tx and 1 Rx, -55 to +125 degC, 8-pin VSSOP (DGK), Green (RoHS & no Sb/Br); Manufacturer: Texas Instruments; PartNumber: V62/07612-03NE; ESD HBM(kV): 12; Function: Transceiver; No. of Rx: 1; Signaling Rate(Mbps): 400; SubFamily: LVDS PHY (<800Mbps); DatasheetVersion: SGLS203B; PackageVersion: revE, May-2006; PackageReference: DGK8; PackageDescription: 8-Pin Thin Small Outline Package 3 x 3 mm Body ,0.65 mm Pitch; Supplier 1: Newark; Supplier Part Number 1: 46M1904; Supplier 2: Mouser; Supplier Part Number 2: 595-V62/07612-03NE; Eco-Plan: Green (RoHS & no Sb/Br); ICC(Max)(mA): 12; Input Signal: LVDS, LVTTL; No. of Tx: 1; Output Signal: LVDS, LVTTL; Mounting Technology: Surface Mount; Code_JEDEC: MO-187-AA; ComponentLink1Description: Datasheet; ComponentLink1URL: http://www.ti.com/general/docs/lit/getliterature.tsp?genericPartNumber=SN65LVDS179-EP&fileType=pdf; ComponentLink2Description: URL Link1; ComponentLink2URL: SamplesURL:http://www.ti.com/product/sn65lvds179-ep#samples
footprint DGK8_N (TSOP, 8-Leads, Body 3x3mm, Pitch 0.65mm, IPC Medium Density)
footprint DGK8_L (TSOP, 8-Leads, Body 3x3mm, Pitch 0.65mm, IPC High Density)
footprint DGK8_M (TSOP, 8-Leads, Body 3x3mm, Pitch 0.65mm, IPC Low Density)
pins: 1 VCC (power), 2 R (out), 3 D (in), 4 GND (power), 5 Y (out), 6 Z (out), 7 B (in), 8 A (in)